# EAGLE library part INF-PG-LQFP-100-11-7000X7000E9 (library XMC4500-F100K1024 AB)
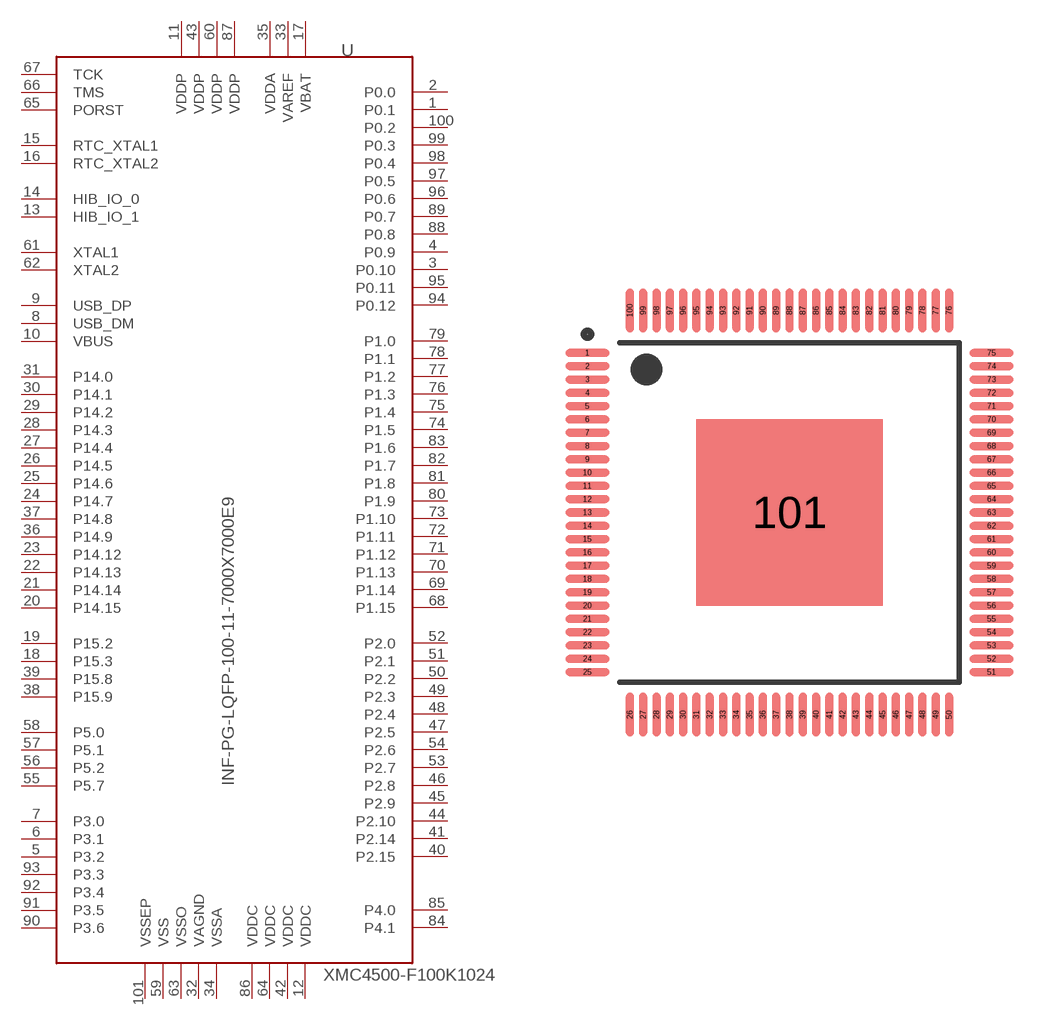
[diagram p0: symbol with the pads of INF-PG-LQFP-100-11-7000X7000E9PRIMARY; footprint INF-PG-LQFP-100-11-7000X7000E9PRIMARY]

Designator prefix U

## INF-PG-LQFP-100-11-7000X7000E9LQFP-100  [INF-PG-LQFP-100-11-7000X7000E9PRIMARY]
1  P0.1
2  P0.0
3  P0.10
4  P0.9
5  P3.2
6  P3.1
7  P3.0
8  USB_DM
9  USB_DP
10  VBUS
11  VDDP
12  VDDC
13  HIB_IO_1
14  HIB_IO_0
15  RTC_XTAL1
16  RTC_XTAL2
17  VBAT
18  P15.3
19  P15.2
20  P14.15
21  P14.14
22  P14.13
23  P14.12
24  P14.7
25  P14.6
26  P14.5
27  P14.4
28  P14.3
29  P14.2
30  P14.1
31  P14.0
32  VAGND
33  VAREF
34  VSSA
35  VDDA
36  P14.9
37  P14.8
38  P15.9
39  P15.8
40  P2.15
41  P2.14
42  VDDC
43  VDDP
44  P2.10
45  P2.9
46  P2.8
47  P2.5
48  P2.4
49  P2.3
50  P2.2
51  P2.1
52  P2.0
53  P2.7
54  P2.6
55  P5.7
56  P5.2
57  P5.1
58  P5.0
59  VSS
60  VDDP
61  XTAL1
62  XTAL2
63  VSSO
64  VDDC
65  PORST
66  TMS
67  TCK
68  P1.15
69  P1.14
70  P1.13
71  P1.12
72  P1.11
73  P1.10
74  P1.5
75  P1.4
76  P1.3
77  P1.2
78  P1.1
79  P1.0
80  P1.9
81  P1.8
82  P1.7
83  P1.6
84  P4.1
85  P4.0
86  VDDC
87  VDDP
88  P0.8
89  P0.7
90  P3.6
91  P3.5
92  P3.4
93  P3.3
94  P0.12
95  P0.11
96  P0.6
97  P0.5
98  P0.4
99  P0.3
100  P0.2
101  VSSEP

## Footprint INF-PG-LQFP-100-11-7000X7000E9PRIMARY (pad centres in mm)
Original name INF-PG-LQFP-100-11-7000X70009B
smd 1.65 x 0.3: 1 -7.6,6; 2 -7.6,5.5; 3 -7.6,5; 4 -7.6,4.5; 5 -7.6,4; 6 -7.6,3.5; 7 -7.6,3; 8 -7.6,2.5; 9 -7.6,2; 10 -7.6,1.5; 11 -7.6,1; 12 -7.6,0.5; 13 -7.6,0; 14 -7.6,-0.5; 15 -7.6,-1; 16 -7.6,-1.5; 17 -7.6,-2; 18 -7.6,-2.5; 19 -7.6,-3; 20 -7.6,-3.5; 21 -7.6,-4; 22 -7.6,-4.5; 23 -7.6,-5; 24 -7.6,-5.5; 25 -7.6,-6; 51 7.6,-6; 52 7.6,-5.5; 53 7.6,-5; 54 7.6,-4.5; 55 7.6,-4; 56 7.6,-3.5; 57 7.6,-3; 58 7.6,-2.5; 59 7.6,-2; 60 7.6,-1.5; 61 7.6,-1; 62 7.6,-0.5; 63 7.6,0; 64 7.6,0.5; 65 7.6,1; 66 7.6,1.5; 67 7.6,2; 68 7.6,2.5; 69 7.6,3; 70 7.6,3.5; 71 7.6,4; 72 7.6,4.5; 73 7.6,5; 74 7.6,5.5; 75 7.6,6
smd 0.3 x 1.65: 26 -6,-7.6; 27 -5.5,-7.6; 28 -5,-7.6; 29 -4.5,-7.6; 30 -4,-7.6; 31 -3.5,-7.6; 32 -3,-7.6; 33 -2.5,-7.6; 34 -2,-7.6; 35 -1.5,-7.6; 36 -1,-7.6; 37 -0.5,-7.6; 38 0,-7.6; 39 0.5,-7.6; 40 1,-7.6; 41 1.5,-7.6; 42 2,-7.6; 43 2.5,-7.6; 44 3,-7.6; 45 3.5,-7.6; 46 4,-7.6; 47 4.5,-7.6; 48 5,-7.6; 49 5.5,-7.6; 50 6,-7.6; 76 6,7.6; 77 5.5,7.6; 78 5,7.6; 79 4.5,7.6; 80 4,7.6; 81 3.5,7.6; 82 3,7.6; 83 2.5,7.6; 84 2,7.6; 85 1.5,7.6; 86 1,7.6; 87 0.5,7.6; 88 0,7.6; 89 -0.5,7.6; 90 -1,7.6; 91 -1.5,7.6; 92 -2,7.6; 93 -2.5,7.6; 94 -3,7.6; 95 -3.5,7.6; 96 -4,7.6; 97 -4.5,7.6; 98 -5,7.6; 99 -5.5,7.6; 100 -6,7.6
smd 7 x 7: 101 0,0